# Altium footprint library TVS_ESDA7P60-1U1M.PcbLib: 1 footprints
Each footprint in its own frame and in the unit in brackets; x right, y up, seen from the top. Pads: shape width x height; smd on the part's side, far side on the other; paste and mask are expansions set on the pad; w line width, h text height; cw(c..) or ccw(c..) is an arc to the next point about the centre after c.
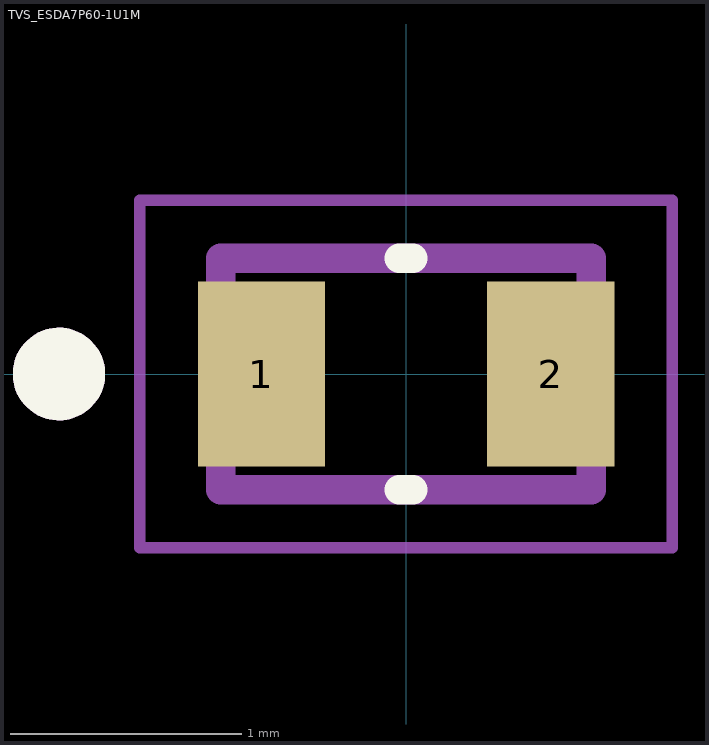
[diagram p0: the footprint, top view; thin cyan lines are the x and y axes]

## TVS_ESDA7P60-1U1M [mm]
height 0.6
pads (2):
  rect 0.55x0.8 smd: 1(-0.625,0) 2(0.625,0)
Top Overlay:
  circle w0.2: c-1.5,0 r0.1
  lines w0.127: -0.03,-0.5 0.03,-0.5 ; -0.03,0.5 0.03,0.5
Assembly Top:
  circle w0.2: c-1.5,0 r0.1
  lines w0.127: -0.8,-0.5 0.8,-0.5 0.8,0.5 -0.8,0.5 -0.8,-0.5
Courtyard Top:
  lines w0.05: -1.15,-0.75 -1.15,0.75 1.15,0.75 1.15,-0.75 -1.15,-0.75